# Altium schematic symbol library Baja.SchLib: 14 symbols
Pins are listed as number, name and electrical type; pins without a type are passive.

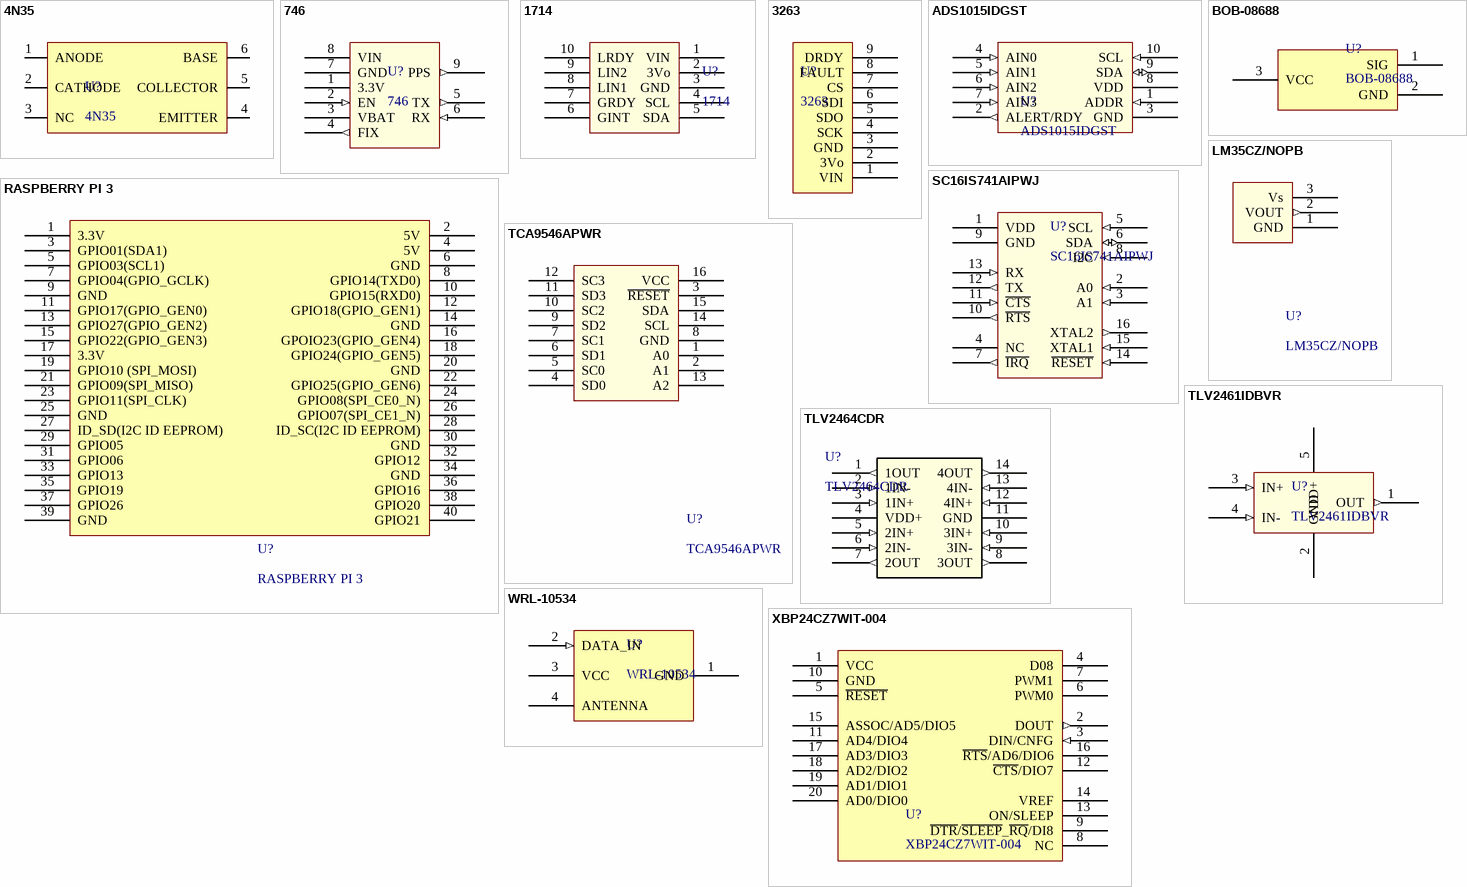
[diagram p0: symbols 4N35 to XBP24CZ7WIT-004]

## 4N35
designator U?
OPTOISO 3.55KV TRANS W/BASE 6DIP; Mfr 1: Lite-On Inc.; Mfr 1 PN: 4N35
footprint 4N35 (OPTOISO 3.55KV TRANS W/BASE 6DIP)
pins: 1 ANODE, 2 CATHODE, 3 NC, 4 EMITTER, 5 COLLECTOR, 6 BASE

## 746
designator U?
GPS BREAKOUT 66CH W/10HZ UPDATES; Mfr 1: Adafruit; Mfr 1 PN: 746
footprint Model Name (Footprint not found)
pins: 1 3.3V (power), 2 EN (in), 3 VBAT, 4 FIX (out), 5 TX (out), 6 RX (in), 7 GND (power), 8 VIN (power), 9 PPS (out)

## 1714
designator U?
9-DOF IMU BREAKOUT BRD; Mfr 1: Adafruit; Mfr 1 PN: 1714; Notes: *
pins: 1 VIN (power), 2 3Vo (power), 3 GND (power), 4 SCL, 5 SDA, 6 GINT, 7 GRDY, 8 LIN1, 9 LIN2, 10 LRDY

## 3263
designator U?
MAX31856 THERMOCOUPLE AMP BOARD; Mfr 1: Adafruit Industries LLC; Mfr 1 PN: 3263; Notes: *
pins: 1 VIN (power), 2 3Vo (power), 3 GND (power), 4 SCK, 5 SDO, 6 SDI, 7 CS, 8 FAULT, 9 DRDY

## ADS1015IDGST
designator U?
IC ADC 12BIT I2C W/REF 10-MSOP; Mfr 1: Texas Instruments; Mfr 1 PN: ADS1015IDGST
pins: 1 ADDR (in), 2 ALERT/RDY (out), 3 GND (power), 4 AIN0 (in), 5 AIN1 (in), 6 AIN2 (in), 7 AIN3 (in), 8 VDD (power), 9 SDA (io), 10 SCL (in)

## BOB-08688
designator U?
TEMT6000 LIGHT SENSOR
pins: 1 SIG, 2 GND (power), 3 VCC (power)

## LM35CZ/NOPB
designator U?
SENSOR TEMP ANLG VOLT TO-92-3; Mfr 1: Texas Instruments; Mfr 1 PN: LM35CZ/NOPB
pins: 1 GND (power), 2 VOUT (out), 3 Vs (power)

## RASPBERRY PI 3
designator U?
SINGLE BOARD COMPUTER 1.2GHZ 1GB; Mfr 1: Raspberry Pi; Mfr 1 PN: RASPBERRY PI 3
pins: 1 3.3V (power), 2 5V (power), 3 GPIO01(SDA1), 4 5V (power), 5 GPIO03(SCL1), 6 GND (power), 7 GPIO04(GPIO_GCLK), 8 GPIO14(TXD0), 9 GND (power), 10 GPIO15(RXD0), 11 GPIO17(GPIO_GEN0), 12 GPIO18(GPIO_GEN1), 13 GPIO27(GPIO_GEN2), 14 GND (power), 15 GPIO22(GPIO_GEN3), 16 GPOIO23(GPIO_GEN4), 17 3.3V (power), 18 GPIO24(GPIO_GEN5), 19 GPIO10 (SPI_MOSI), 20 GND (power), 21 GPIO09(SPI_MISO), 22 GPIO25(GPIO_GEN6), 23 GPIO11(SPI_CLK), 24 GPIO08(SPI_CE0_N), 25 GND (power), 26 GPIO07(SPI_CE1_N), 27 ID_SD(I2C ID EEPROM), 28 ID_SC(I2C ID EEPROM), 29 GPIO05, 30 GND (power), 31 GPIO06, 32 GPIO12, 33 GPIO13, 34 GND (power), 35 GPIO19, 36 GPIO16, 37 GPIO26, 38 GPIO20, 39 GND (power), 40 GPIO21

## SC16IS741AIPWJ
designator U?
IC UART SGL I2C BUS SPI 16TSSOP; Mfr 1: NXP USA Inc.; Mfr 1 PN: SC16IS741AIPWJ
footprint SC16IS741AIPWJ (IC UART SGL I2C BUS SPI 16TSSOP)
pins: 1 VDD (power), 2 A0 (in), 3 A1 (in), 4 NC, 5 SCL (in), 6 SDA (io), 7 ~{IRQ} (out), 8 I2C (in), 9 GND (power), 10 ~{RTS} (out), 11 ~{CTS} (in), 12 TX (out), 13 RX (in), 14 ~{RESET} (in), 15 XTAL1 (in), 16 XTAL2 (out)

## TCA9546APWR
designator U?
IC I2C SW 4CH W/RESET 16TSSOP; Mfr 1: Texas Instruments; Mfr 1 PN: TCA9546APWR
pins: 1 A0, 2 A1, 3 ~{RESET}, 4 SD0, 5 SC0, 6 SD1, 7 SC1, 8 GND (power), 9 SD2, 10 SC2, 11 SD3, 12 SC3, 13 A2, 14 SCL, 15 SDA, 16 VCC (power)

## TLV2461IDBVR
designator U?
IC OPAMP GP 6.4MHZ RRO SOT23-5; Mfr 1: Texas Instruments; Mfr 1 PN: TLV2461IDBVR
pins: 1 OUT (out), 2 GND (power), 3 IN+ (in), 4 IN- (in), 5 VDD+ (power)

## TLV2464CDR
designator U?
IC OPAMP GP 6.4MHZ RRO 14SOIC; Vendor: Texas Instruments; Built_By: EMA_UL_Team; C: Copyright (C) 2015 Accelerated Designs. All rights reserved; Manufacturer_Part_Number: TLV2464CDR; Value: Value; Type: Type; RefDes: RefDes
footprint TLV2464CDR
pins: 1 1OUT (out), 2 1IN- (in), 3 1IN+ (in), 4 VDD+ (power), 5 2IN+ (in), 6 2IN- (in), 7 2OUT (out), 8 3OUT (out), 9 3IN- (in), 10 3IN+ (in), 11 GND (power), 12 4IN+ (in), 13 4IN- (in), 14 4OUT (out)

## WRL-10534
designator U?
RF LINK TRANSMITTER - 434MHZ; Mfr 1: SparkFun Electronics; Mfr 1 PN: WRL-10534; Notes: *
pins: 1 GND, 2 DATA_IN (in), 3 VCC (power), 4 ANTENNA

## XBP24CZ7WIT-004
designator U?
RF TXRX MODULE 802.15.4 WIRE ANT; Mfr 1: Digi International; Mfr 1 PN: XBP24CZ7WIT-004; Notes: *
footprint XBP24CZ7WIT-004 (RF TXRX MODULE 802.15.4 WIRE ANT)
pins: 1 VCC (power), 2 DOUT (out), 3 DIN/CNFG (in), 4 D08, 5 ~{RESET}, 6 PWM0, 7 PWM1, 8 NC, 9 ~{DTR}/~{SLEEP}_~{RQ}/DI8, 10 GND (power), 11 AD4/DIO4, 12 ~{CTS}/DIO7, 13 ON/SLEEP, 14 VREF, 15 ASSOC/AD5/DIO5, 16 ~{RTS}/AD6/DIO6, 17 AD3/DIO3, 18 AD2/DIO2, 19 AD1/DIO1, 20 AD0/DIO0